# Altium schematic symbol library MTHNP89MIL.SchLib: 1 symbol
Pins are listed as number, name and electrical type; pins without a type are passive.

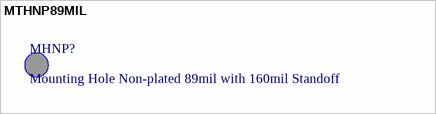
[diagram p0: symbol MTHNP89MIL]

## MTHNP89MIL
designator MHNP?, comment Mounting Hole Non-plated 89mil with 160mil Standoff
Non-plated Mounting Hole with 89mil Diameter Hole and 160mil Diameter for Standoff
footprint MTHNP89MIL (Mounting Hole Non-plated 89mil with 160mil Standoff)